# EAGLE library part OSTYK42106030 (library myLib)
CONN BARRIER STRIP 6CIRC 8.25MM
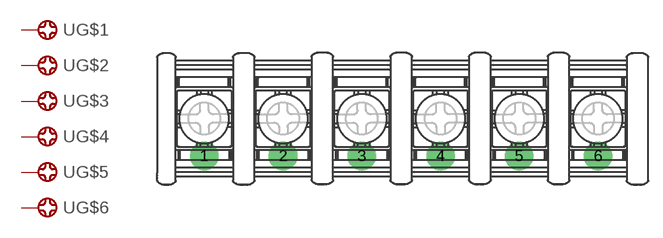
[diagram p10: symbol with the pads of OSTYK42106030; footprint OSTYK42106030]

Designator prefix -; gates G$1=CONNECT G$2=CONNECT G$3=CONNECT G$4=CONNECT G$5=CONNECT G$6=CONNECT

## OSTYK42106030  [OSTYK42106030]
1  G$1:1  pas
2  G$2:1  pas
3  G$3:1  pas
4  G$4:1  pas
5  G$5:1  pas
6  G$6:1  pas

## Footprint OSTYK42106030 (pad centres in mm)
drill 1.5 pad 3: 1 -20.61,-3.9; 2 -12.36,-3.9; 3 -4.11,-3.9; 4 4.14,-3.9; 5 12.39,-3.9; 6 20.64,-3.9